# Altium footprint library 2MM_Mouse_Outline.PcbLib: 1 footprints
Each footprint in its own frame and in the unit in brackets; x right, y up, seen from the top. Pads: shape width x height; smd on the part's side, far side on the other; paste and mask are expansions set on the pad; w line width, h text height; cw(c..) or ccw(c..) is an arc to the next point about the centre after c.
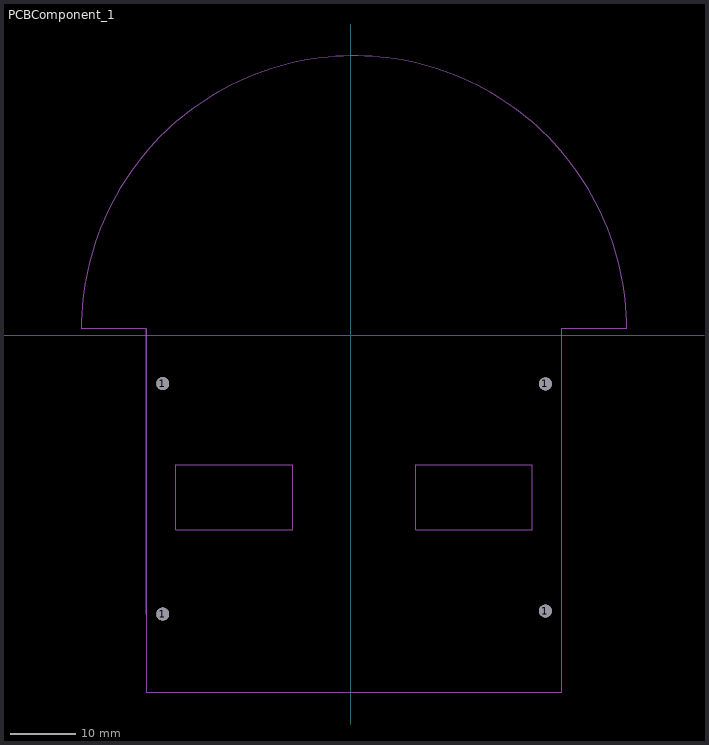
[diagram p0: the footprint, top view; thin cyan lines are the x and y axes]

## PCBComponent_1 [mm]
pads (4):
  round 2 hole 2 unplated: 1(-28.956,-42.993) 1(-28.956,-7.493) 1(29.993,-42.519) 1(29.993,-7.519)
Mechanical 1:
  lines w0.1: -31.496,-55.019 32.493,-55.019 32.493,0.981 ; -31.456,-54.993 -31.456,1.007 ; -26.956,-29.993 -8.956,-29.993 -8.956,-19.993 -26.956,-19.993 -26.956,-29.993 ; 9.993,-30.019 27.993,-30.019 27.993,-20.019 9.993,-20.019 9.993,-30.019
  lines w0.127: -41.492,1.014 -31.492,1.014 -31.492,-42.986 ; -41.492,1.016 cw(c0.508,1.016) 42.508,1.016 ; 32.508,-42.986 32.508,1.014 42.508,1.014